# EAGLE library part QT1070 (library QT1070)
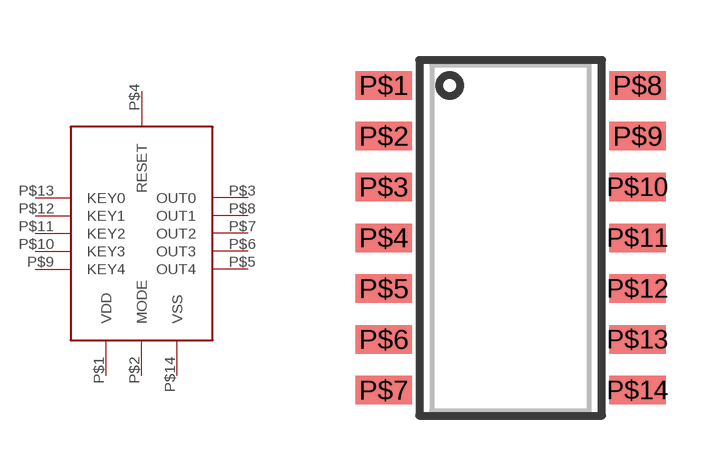
[diagram p0: symbol with the pads of QT1070; footprint QT1070]

Designator prefix -

## QT1070  [QT1070]
P$1  VDD
P$2  MODE
P$3  OUT0  out
P$4  RESET
P$5  OUT4  out
P$6  OUT3  out
P$7  OUT2  out
P$8  OUT1  out
P$9  KEY4  in
P$10  KEY3  in
P$11  KEY2  in
P$12  KEY1  in
P$13  KEY0  in
P$14  VSS

## Footprint QT1070 (pad centres in mm)
smd 1.422 x 0.711: P$1 -3.175,3.81; P$2 -3.175,2.54; P$3 -3.175,1.27; P$4 -3.175,0; P$5 -3.175,-1.27; P$6 -3.175,-2.54; P$7 -3.175,-3.81; P$8 3.175,3.81; P$9 3.175,2.54; P$10 3.175,1.27; P$11 3.175,0; P$12 3.175,-1.27; P$13 3.175,-2.54; P$14 3.175,-3.81